# EAGLE library part 00SPEEDY_EFD15_SMD_12PIN (library Wurth Electronics Midcom Inc V1-0)
Package Style: Speedy EFD15 Mounting: SMD Pins: 12 pins Bobbin: 070-4265 Best pinouts for production vary per application. Please contact Wurth Electronics Midcom, Inc. for assistance with your custom design. Website: Wurth Electronics Midcom <http://www.we-online.com/midcom> Contact us Wurth Electronics Midcom, Inc. 121 Airport Dr. Watertown, SD 57201 Phone: (605) 886-4385 Fax: (605) 886-4486 E-Mail: midcom@we-online.com
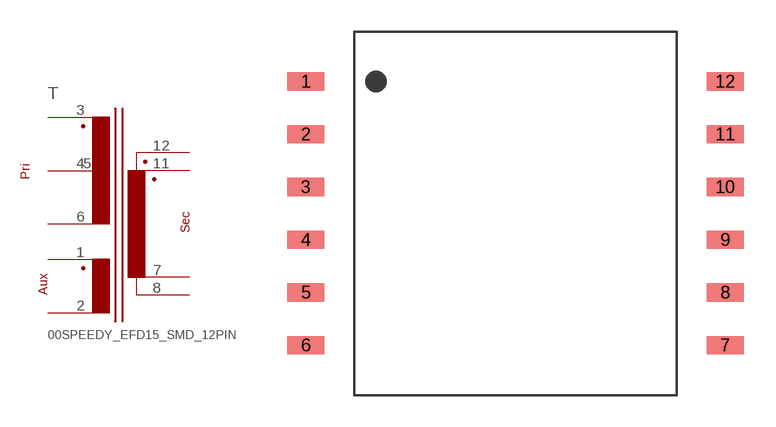
[diagram p114: symbol with the pads of 00SPEEDY_EFD15_SMD_12PIN; footprint 00SPEEDY_EFD15_SMD_12PIN]

Designator prefix T

## 00SPEEDY_EFD15_SMD_12PIN  [00SPEEDY_EFD15_SMD_12PIN]
1  5  pas
2  6  pas
3  1  pas
4  2  pas
5  3  pas
6  4  pas
7  10  pas
8  8  pas
11  9  pas
12  7  pas

## Footprint 00SPEEDY_EFD15_SMD_12PIN (pad centres in mm)
Package Style: Speedy EFD15 Mounting: SMD Pins: 12 pins Bobbin: 070-4265
smd 1.753 x 0.864: 1 -9.893,6.223; 2 -9.893,3.734; 3 -9.893,1.245; 4 -9.893,-1.245; 5 -9.893,-3.734; 6 -9.893,-6.223; 7 9.893,-6.223; 8 9.893,-3.734; 9 9.893,-1.245; 10 9.893,1.245; 11 9.893,3.734; 12 9.893,6.223